# EAGLE library part IDC_CONNECTOR (library FaBo-Connetor)
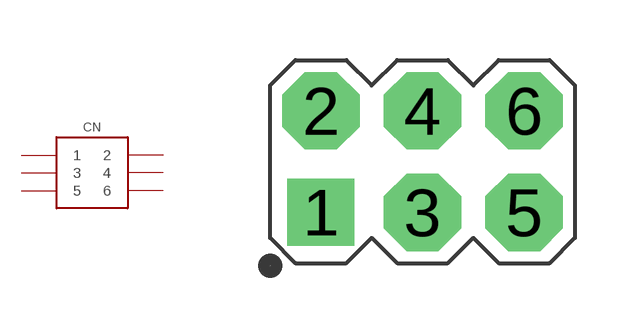
[diagram p2: symbol with the pads of 2X3_IDC; footprint 2X3_IDC]

Designator prefix CN

## IDC_CONNECTOR  [2X3_IDC]
1  1
2  2
3  3
4  4
5  5
6  6

## Footprint 2X3_IDC (pad centres in mm)
drill 1.1 pad 1.676 square: 1 -2.54,-1.27
drill 1.1 pad 1.93 octagon: 2 -2.54,1.27; 3 0,-1.27; 4 0,1.27; 5 2.54,-1.27; 6 2.54,1.27